# EAGLE library part HEADER-1X7 (library SteveMarple)
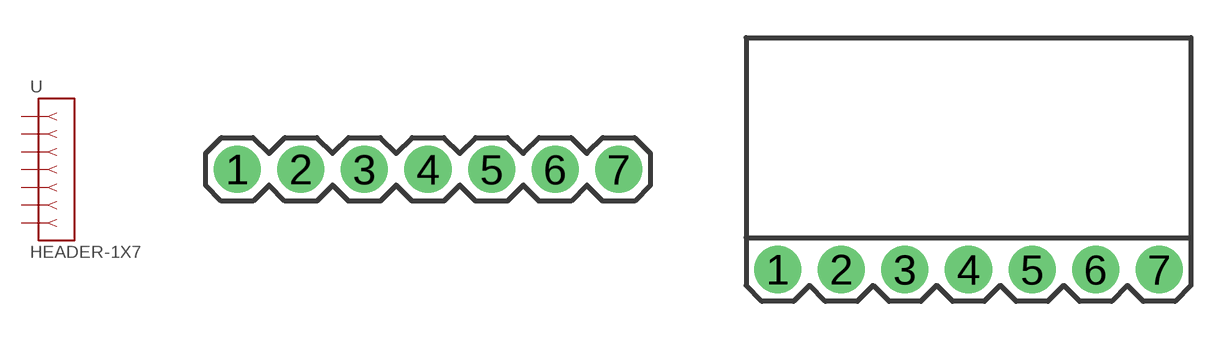
[diagram p31: symbol with the pads of HEADER-1X7; footprints HEADER-1X7, HEADER-1X7-RA]

Designator prefix -

## HEADER-1X7VERTICAL  [HEADER-1X7]
1  P$1
2  P$2
3  P$3
4  P$4
5  P$5
6  P$6
7  P$7

## HEADER-1X7RA  [HEADER-1X7-RA]
Pads as for HEADER-1X7

## Footprint HEADER-1X7 (pad centres in mm)
1x7 female header 1x7 female header, 0.1" pitch.
drill 1.016 pad 1.88: 1 -7.62,0; 2 -5.08,0; 3 -2.54,0; 4 0,0; 5 2.54,0; 6 5.08,0; 7 7.62,0

## Footprint HEADER-1X7-RA (pad centres in mm)
1x7 female header 1x7 female header, 0.1" pitch, right-angle.
drill 1.016 pad 1.88: 1 -7.62,0; 2 -5.08,0; 3 -2.54,0; 4 0,0; 5 2.54,0; 6 5.08,0; 7 7.62,0